# Altium footprint library INDM4040X180N.PcbLib: 1 footprints
Each footprint in its own frame and in the unit in brackets; x right, y up, seen from the top. Pads: shape width x height; smd on the part's side, far side on the other; paste and mask are expansions set on the pad; w line width, h text height; cw(c..) or ccw(c..) is an arc to the next point about the centre after c.
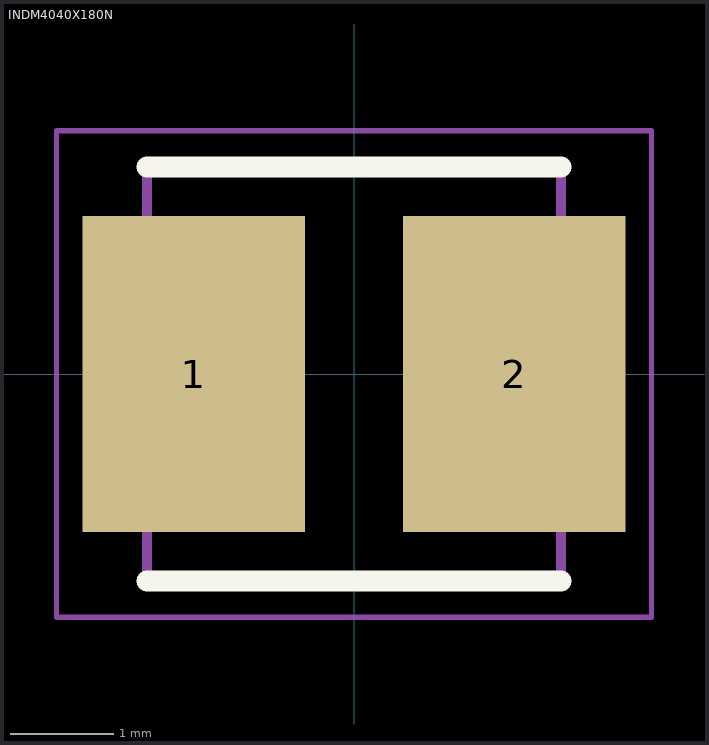
[diagram p0: the footprint, top view; thin cyan lines are the x and y axes]

## INDM4040X180N [mm]
pads (2):
  rect 2.15x3.05 smd: 1(-1.55,0) 2(1.55,0)
L26-Silk Screen Top (Multiple PADS layers...):
  lines w0.2: -2,-2 2,-2 ; -2,2 2,2
L15 (Multiple PADS layers...):
  lines w0.1: -2,-2 2,-2 2,2 -2,2 -2,-2
L20:
  lines w0.05: -2.875,-2.35 2.875,-2.35 2.875,2.35 -2.875,2.35 -2.875,-2.35